# EAGLE library part RF-NRF24L01 (library p.peter-periphery)
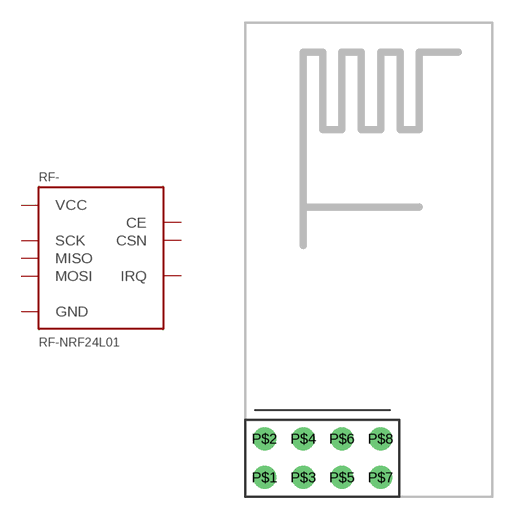
[diagram p11: symbol with the pads of RF-NRF2401; footprint RF-NRF2401]

Designator prefix RF-

## RF-NRF24L01-BREAKOUT  [RF-NRF2401]
P$1  GND
P$2  VCC
P$3  CE
P$4  CSN
P$5  SCK
P$6  MOSI
P$7  MISO
P$8  IRQ

## Footprint RF-NRF2401 (pad centres in mm)
drill 1: P$1 0,0; P$2 0,2.55; P$3 2.55,0; P$4 2.55,2.55; P$5 5.1,0; P$6 5.1,2.55; P$7 7.65,0; P$8 7.65,2.55